# Altium schematic symbol library KSZ9031RNX.SchLib: 1 symbol
Pins are listed as number, name and electrical type; pins without a type are passive.

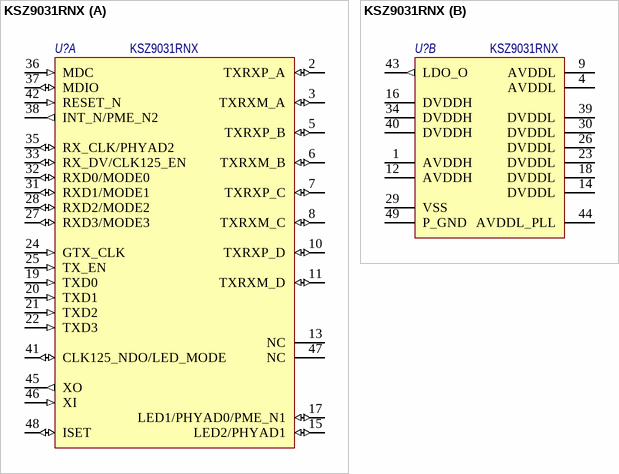
[diagram p0: symbol KSZ9031RNX]

## KSZ9031RNX
designator U?
Gigabit Ethernet Transceiver with RGMII / Support; Потребление, Вт: 0.538; Назначение: Gigabit Ethernet Transceiver; Наименование: KSZ9031RNX
footprint QFN-48 (Footprint not found)
part A pins: 2 TXRXP_A (io), 3 TXRXM_A (io), 5 TXRXP_B (io), 6 TXRXM_B (io), 7 TXRXP_C (io), 8 TXRXM_C (io), 10 TXRXP_D (io), 11 TXRXM_D (io), 13 NC, 15 LED2/PHYAD1 (io), 17 LED1/PHYAD0/PME_N1 (io), 19 TXD0 (in), 20 TXD1 (in), 21 TXD2 (in), 22 TXD3 (in), 24 GTX_CLK (in), 25 TX_EN (in), 27 RXD3/MODE3 (io), 28 RXD2/MODE2 (io), 31 RXD1/MODE1 (io), 32 RXD0/MODE0 (io), 33 RX_DV/CLK125_EN (io), 35 RX_CLK/PHYAD2 (io), 36 MDC (in), 37 MDIO (io), 38 INT_N/PME_N2 (out), 41 CLK125_NDO/LED_MODE (io), 42 RESET_N (in), 45 XO (out), 46 XI (in), 47 NC, 48 ISET (io)
part B pins: 1 AVDDH (power), 4 AVDDL (power), 9 AVDDL (power), 12 AVDDH (power), 14 DVDDL (power), 16 DVDDH (power), 18 DVDDL (power), 23 DVDDL (power), 26 DVDDL (power), 29 VSS (power), 30 DVDDL (power), 34 DVDDH (power), 39 DVDDL (power), 40 DVDDH (power), 43 LDO_O (out), 44 AVDDL_PLL (power), 49 P_GND (power)